# Altium schematic symbol library CAP-TEMP.SchLib: 1 symbol
Pins are listed as number, name and electrical type; pins without a type are passive.

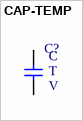
[diagram p0: symbol CAP-TEMP]

## CAP-TEMP
designator C?  Rated Voltage: V  Tolerance: T  Capacitence: C  (hidden comment: CAP-TEMP)
{DESCRIPTION]; PN: *; MFR: *; ComponentLink1Description: Datasheet; ComponentLink1URL: www.google.com; Temperature Coefficient: *; Package: *; Footprint: *
pins: 1, 2